# EAGLE library part 74F32 (library A3660)
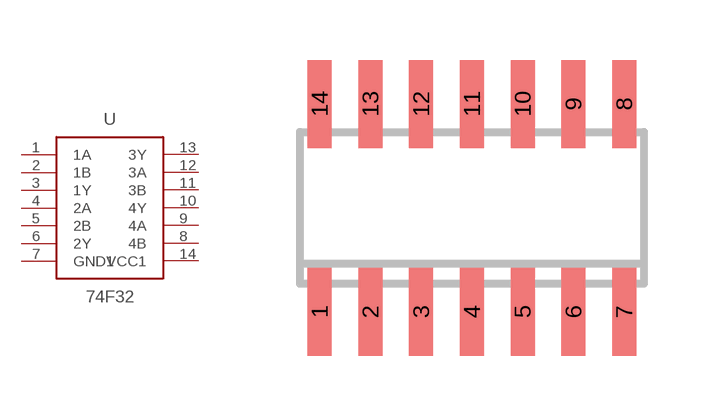
[diagram p12: symbol with the pads of 74F32; footprint 74F32]

Designator prefix -

## 74F32  [74F32]
1  1A  in
2  1B  in
3  1Y  out
4  2A  in
5  2B  in
6  2Y  out
7  GND1  in
8  4B  in
9  4A  in
10  4Y  out
11  3B  in
12  3A  in
13  3Y  out
14  VCC1  in

## Footprint 74F32 (pad centres in mm)
smd 0.6 x 2.2: 1 -3.175,-2.6; 2 -1.905,-2.6; 3 -0.635,-2.6; 4 0.635,-2.6; 5 1.905,-2.6; 6 3.175,-2.6; 7 4.445,-2.6; 8 4.445,2.6; 9 3.175,2.6; 10 1.905,2.6; 11 0.635,2.6; 12 -0.635,2.6; 13 -1.905,2.6; 14 -3.175,2.6